# Altium footprint library KLS8-M3.PcbLib: 1 footprints
Each footprint in its own frame and in the unit in brackets; x right, y up, seen from the top. Pads: shape width x height; smd on the part's side, far side on the other; paste and mask are expansions set on the pad; w line width, h text height; cw(c..) or ccw(c..) is an arc to the next point about the centre after c.
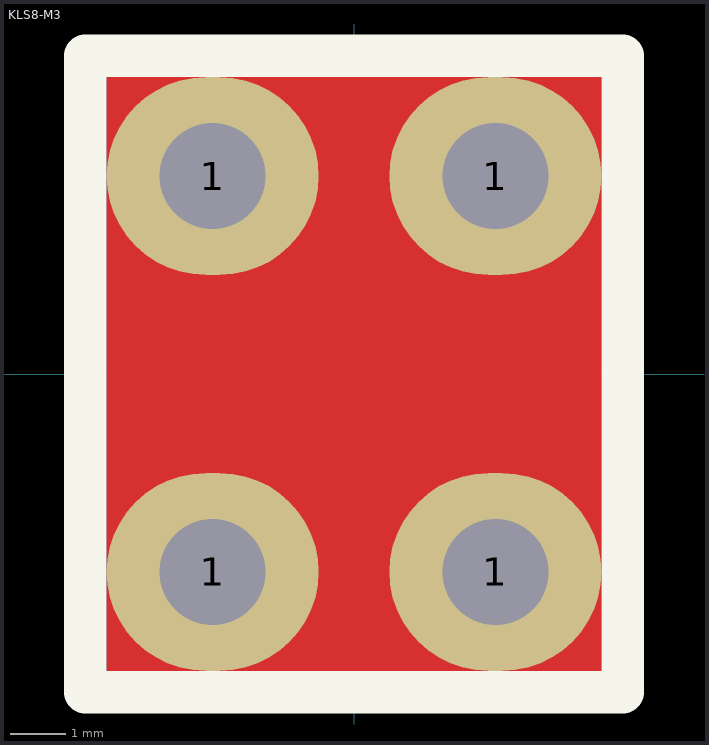
[diagram p0: the footprint, top view; thin cyan lines are the x and y axes]

## KLS8-M3 [mil]
pads (4):
  oval 150x140 hole 75: 1(-100,-140) 1(-100,140) 1(100,-140) 1(100,140)
Top Layer:
  rectangle: -175,-210 175,210
Bottom Layer:
  rectangle: -175,-210 175,210
Top Overlay:
  lines w30: -190,-225 190,-225 190,225 -190,225 -190,-225
Mechanical 1:
  circle w10: c0,0 r71.59
3D body "KLS8 CW1-М3.STEP": height 271.65, standoff -196.58, extent -157.48,-157.48 157.48,157.48